# Altium schematic symbol library IC_Logic.SchLib: 14 symbols
Pins are listed as number, name and electrical type; pins without a type are passive.

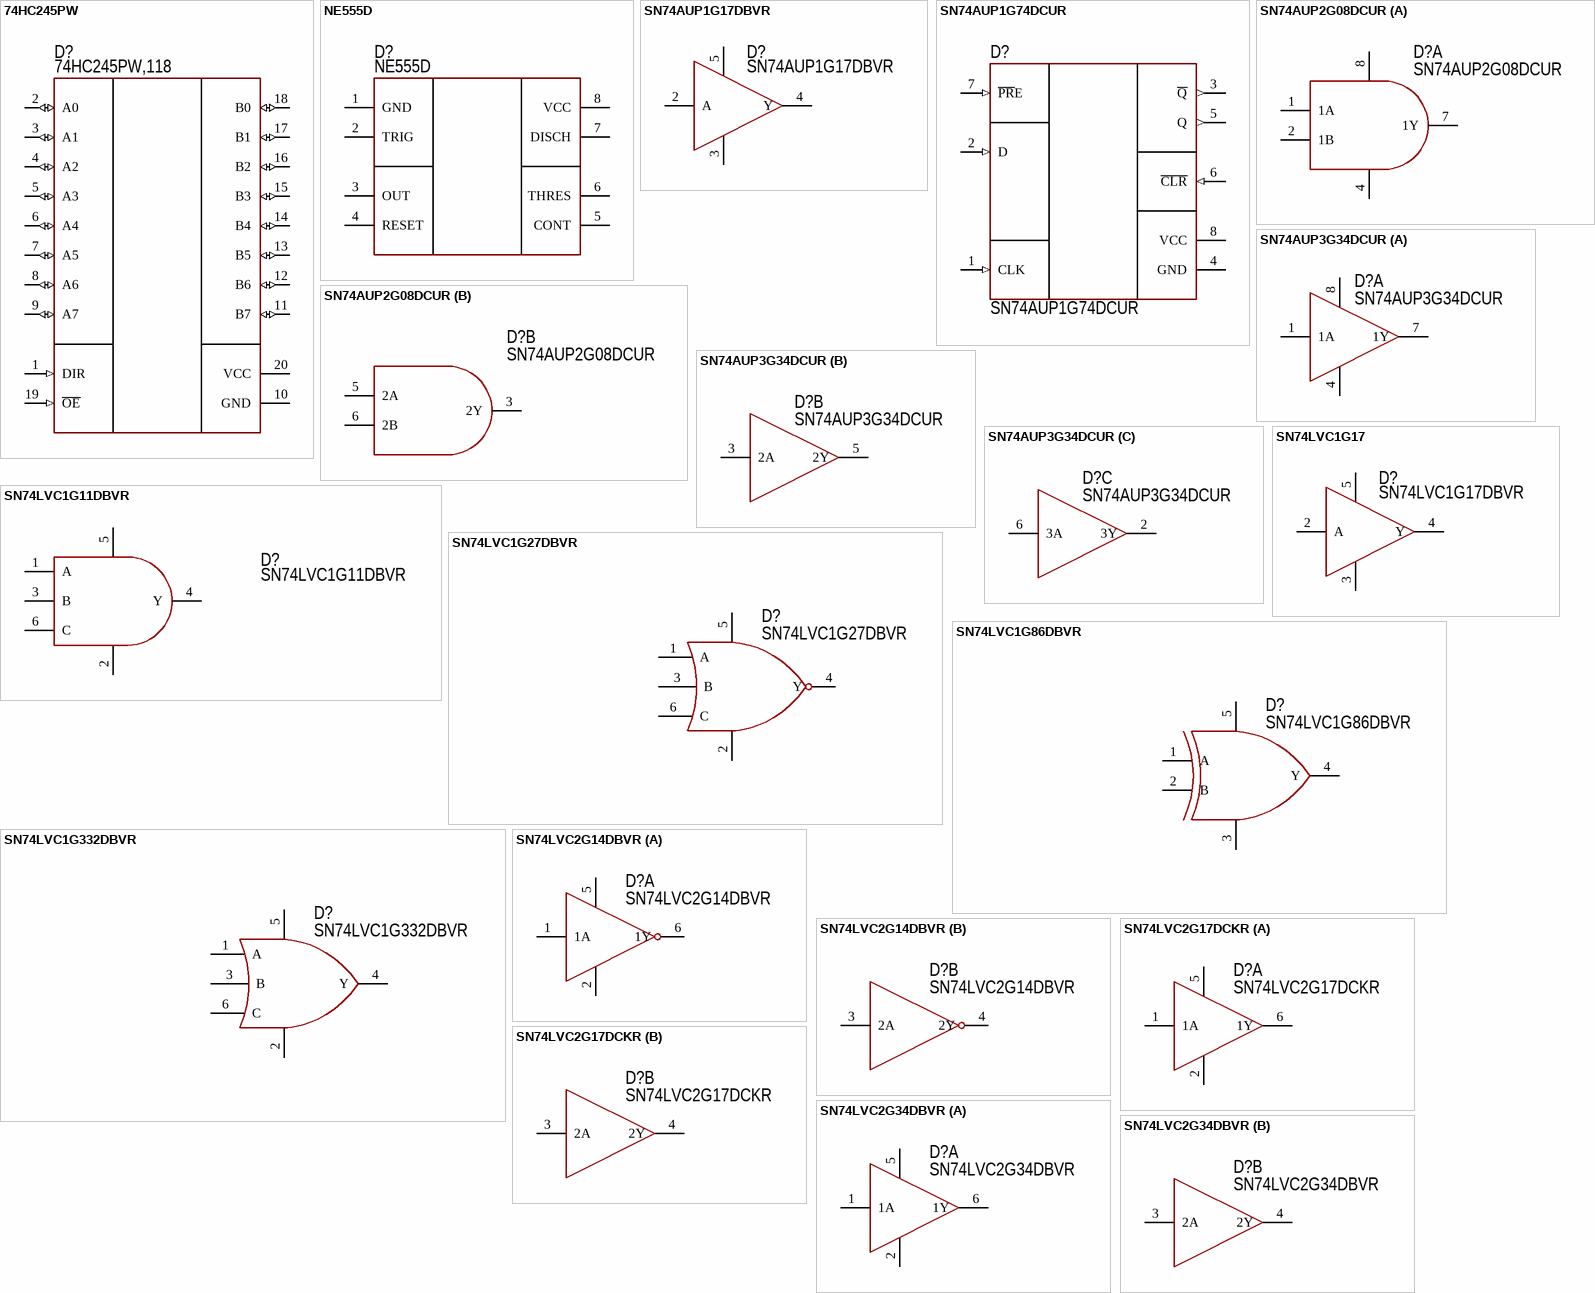
[diagram p0: symbols 74HC245PW to SN74LVC2G34DBVR]

## 74HC245PW
designator D?  PartNumber: 74HC245PW,118
Buffer; Manufacturer: Nexperia; ValueManufacturerPartNumber: IC logic buffer, 2...6V, -40...+125°C, 20-TSSOP; Supply: 2...6V; HelpURL: https://www.digikey.com/product-detail/en/nexperia-usa-inc/74HC245PW118/1727-4296-1-ND/2209913; Package: 20-TSSOP; ComponentType: IC logic buffer; Temperature: -40...+125°C
footprint 20-TSSOP (pitch 0.65 mm)
pins: 1 DIR (in), 2 A0 (io), 3 A1 (io), 4 A2 (io), 5 A3 (io), 6 A4 (io), 7 A5 (io), 8 A6 (io), 9 A7 (io), 10 GND, 11 B7 (io), 12 B6 (io), 13 B5 (io), 14 B4 (io), 15 B3 (io), 16 B2 (io), 17 B1 (io), 18 B0 (io), 19 ~{OE} (in), 20 VCC

## NE555D
designator D?, comment УникальныйНомер: NE555D  (hidden comment: Прецизионный таймер)
NE555D является временной схемой, которая обеспечивает точное время задержки или колебаний. В режимах моностабильной работы или временной задержки, управление интервалом задержки осуществляется внешним резистором и сетевым конденсатором. В стабильном режиме работы, управление частотой и коэффициентом заполнения осуществляется раздельно при помощи двух внешних резисторов и одного внешнего конденсатора. Пороговое значение и значения срабатывания обычно 2/3 и 1/3 от VCC соответственно. Эти уровни могут быть изменены при помощи клеммы управления напряжением. При падении входа триггера ниже его уровня, он активируется и выход переходит в высокое состояние. Если вход триггера находится выше его уровня, а значение на входе выше уровня порогового значения, то триггер осуществляет сброс и выход переходит в низкое состояние. / • Временной диапазон от микросекунд до часов. / • Режимы работы: стабильный и моностабильный / • Регулируемый рабочий цикл / • Ток совместимых с TTL выходов до 200мА /; Производитель: TI; Ссылка: ***; Типоразмер: SOIC-8; ТипКомпонента: Прецизионный таймер
footprint 8-SOIC (pitch 1.27 mm)
pins: 1 GND, 2 TRIG (power), 3 OUT, 4 RESET, 5 CONT, 6 THRES, 7 DISCH, 8 VCC

## SN74AUP1G17DBVR
designator D?  PartNumber: SN74AUP1G17DBVR
Schmitt trigger; Manufacturer: Texas Instruments; ValueManufacturerPartNumber: IC Schmitt trigger, 0.8...3.6V, -40...+85°C, SOT23-6; Supply: 0.8...3.6V; HelpURL: https://www.digikey.com/product-detail/en/texas-instruments/SN74AUP1G17DBVR/296-19077-1-ND/864308; Package: SOT23-6; ComponentType: IC Schmitt trigger; Temperature: -40...+85°C
footprint SOT23-5 (pitch 0.95 mm)
pins: 2 A, 3, 4 Y, 5

## SN74AUP1G74DCUR
designator D?  PartNumber: SN74AUP1G74DCUR
D-trigger; Manufacturer: Texas Instruments; ValueManufacturerPartNumber: ICtrigger D-type, 0.8...3.6V, -40...+85°C, 8-VSSOP; Supply: 0.8...3.6V; HelpURL: https://www.digikey.com/product-detail/en/texas-instruments/SN74AUP1G74DCUR/296-19761-1-ND/1091423; Package: 8-VSSOP; ComponentType: ICtrigger D-type; Temperature: -40...+85°C
footprint 8-VSSOP
pins: 1 CLK (in), 2 D (in), 3 ~{Q} (out), 4 GND, 5 Q (out), 6 ~{CLR} (in), 7 ~{PR}E (in), 8 VCC

## SN74AUP2G08DCUR
designator D?  PartNumber: SN74AUP2G08DCUR
AND; Manufacturer: Texas Instruments; ValueManufacturerPartNumber: IC logic AND, 0.8...3.6V, -40...+855°C, 8-VSSOP; Supply: 0.8...3.6V; HelpURL: https://www.digikey.com/product-detail/en/texas-instruments/SN74AUP2G08DCUR/296-32271-1-ND/3505517; Package: 8-VSSOP; ComponentType: IC logic AND; Temperature: -40...+855°C
footprint 8-VSSOP
part A pins: 1 1A, 2 1B, 4, 7 1Y, 8
part B pins: 3 2Y, 5 2A, 6 2B

## SN74AUP3G34DCUR
designator D?  PartNumber: SN74AUP3G34DCUR
Buffer; Manufacturer: Texas Instruments; ValueManufacturerPartNumber: IC logic buffer, 0.8...3.6V, -40...+85°C, 8-VSSOP; Supply: 0.8...3.6V; HelpURL: https://www.digikey.com/product-detail/en/texas-instruments/SN74AUP3G34DCUR/296-25595-1-ND/2202056; Package: 8-VSSOP; ComponentType: IC logic buffer; Temperature: -40...+85°C
footprint 8-VSSOP
part A pins: 1 1A, 4, 7 1Y, 8
part B pins: 3 2A, 5 2Y
part C pins: 2 3Y, 6 3A

## SN74LVC1G11DBVR
designator D?  PartNumber: SN74LVC1G11DBVR
AND; Manufacturer: Texas Instruments; ValueManufacturerPartNumber: IC logic AND, 1.65...5.5V, -40...+125°C, SOT23-6; Supply: 1.65...5.5V; HelpURL: https://www.digikey.com/product-detail/en/texas-instruments/SN74LVC1G11DBVR/296-16810-1-ND/637183; Package: SOT23-6; ComponentType: IC logic AND; Temperature: -40...+125°C
footprint SOT23-6 (pitch 0.95 mm)
pins: 1 A, 2 (power), 3 B, 4 Y, 5 (power), 6 C

## SN74LVC1G17
designator D?  PartNumber: SN74LVC1G17DBVR
Schmitt trigger; Manufacturer: Texas Instruments; ValueManufacturerPartNumber: IC Schmitt trigger, 0.8...3.6V, -40...+85°C, SOT23-6; Supply: 0.8...3.6V; HelpURL: https://www.digikey.com/product-detail/en/texas-instruments/SN74AUP1G17DBVR/296-19077-1-ND/864308; Package: SOT23-6; ComponentType: IC Schmitt trigger; Temperature: -40...+85°C
footprint SOT23-5 (pitch 0.95 mm)
pins: 2 A, 3, 4 Y, 5

## SN74LVC1G27DBVR
designator D?  PartNumber: SN74LVC1G27DBVR
NOR; Manufacturer: Texas Instruments; ValueManufacturerPartNumber: IC logic NOR, 1.65...5.5V, -40...+125°C, SOT23-6; Supply: 1.65...5.5V; HelpURL: https://www.digikey.com/product-detail/en/texas-instruments/SN74LVC1G27DBVR/296-17119-2-ND/664036; Package: SOT23-6; ComponentType: IC logic NOR; Temperature: -40...+125°C
footprint SOT23-6 (pitch 0.95 mm)
pins: 1 A, 2, 3 B, 4 Y, 5, 6 C

## SN74LVC1G86DBVR
designator D?  PartNumber: SN74LVC1G86DBVR
XOR; Manufacturer: Texas Instruments; ValueManufacturerPartNumber: IC logic XOR, 1.65...5.5V, -40...+125°C, SOT23-5; Supply: 1.65...5.5V; HelpURL: https://www.digikey.com/product-detail/en/texas-instruments/SN74LVC1G86DBVR/296-9853-1-ND/380077; Package: SOT23-5; ComponentType: IC logic XOR; Temperature: -40...+125°C
footprint SOT23-5 (pitch 0.95 mm)
pins: 1 A, 2 B, 3, 4 Y, 5

## SN74LVC1G332DBVR
designator D?  PartNumber: SN74LVC1G332DBVR
OR; Manufacturer: Texas Instruments; ValueManufacturerPartNumber: IC logic OR, 1.65...5.5V, -40...+125°C, SOT23-6; Supply: 1.65...5.5V; HelpURL: https://www.digikey.com/product-detail/en/texas-instruments/SN74LVC1G332DBVR/296-18587-1-ND/857355; Package: SOT23-6; ComponentType: IC logic OR; Temperature: -40...+125°C
footprint SOT23-6 (pitch 0.95 mm)
pins: 1 A, 2, 3 B, 4 Y, 5, 6 C

## SN74LVC2G14DBVR
designator D?  PartNumber: SN74LVC2G14DBVR
Inverter; Manufacturer: Texas Instruments; ValueManufacturerPartNumber: IC logic inverter, 1.65...5.5V, -40...+125°C, SOT23-6; Supply: 1.65...5.5V; HelpURL: https://www.digikey.com/product-detail/en/texas-instruments/SN74LVC2G14DBVR/296-13010-1-ND/479730; Package: SOT23-6; ComponentType: IC logic inverter; Temperature: -40...+125°C
footprint SOT23-6 (pitch 0.95 mm)
part A pins: 1 1A, 2, 5, 6 1Y
part B pins: 3 2A, 4 2Y

## SN74LVC2G17DCKR
designator D?  PartNumber: SN74LVC2G17DCKR
Buffer; Manufacturer: Texas Instruments; ValueManufacturerPartNumber: IC logic buffer, 1.65...5.5V, -40...+125°C, SC-70-6; Supply: 1.65...5.5V; HelpURL: https://www.digikey.com/product-detail/en/texas-instruments/SN74LVC2G17DCKR/296-13013-1-ND/479736; Package: SC-70-6; ComponentType: IC logic buffer; Temperature: -40...+125°C
footprint SC70-6 (SOT23, 5-Leads, Body 2,90x2,80mm, Pitch 0,95mm, IPC Medium Density)
part A pins: 1 1A, 2, 5, 6 1Y
part B pins: 3 2A, 4 2Y

## SN74LVC2G34DBVR
designator D?  PartNumber: SN74LVC2G34DBVR
Buffer; Manufacturer: Texas Instruments; ValueManufacturerPartNumber: IC logic buffer, 1.65...5.5V, -40...+125°C, SOT23-6; Supply: 1.65...5.5V; HelpURL: https://www.digikey.com/product-detail/en/texas-instruments/SN74LVC2G34DBVR/296-13496-1-ND/486431; Package: SOT23-6; ComponentType: IC logic buffer; Temperature: -40...+125°C
footprint SOT23-6 (pitch 0.95 mm)
part A pins: 1 1A, 2, 5, 6 1Y
part B pins: 3 2A, 4 2Y